# EAGLE library part AVR_JTAG_2X5 (library customheaders)
HARTING
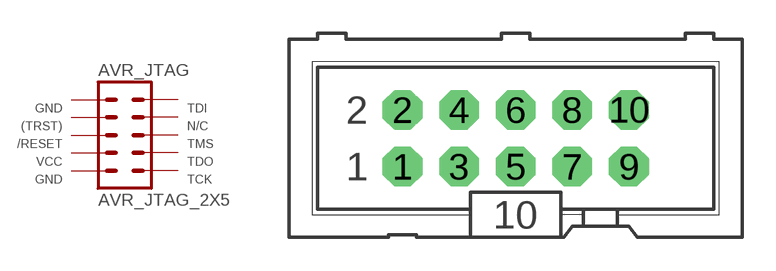
[diagram p1: symbol with the pads of AVR_JTAG_2X5; footprint AVR_JTAG_2X5]

Designator prefix AVR_JTAG

## AVR_JTAG_2X5/OUT (OC_FARNELL: unknown; OC_NEWARK: unknown)  [AVR_JTAG_2X5]
1  GND2
2  TDI
3  (TRST)
4  N/C
5  /RESET
6  TMS
7  VCC
8  TDO
9  GND1
10  TCK

## AVR_JTAG_2X5/IN  [AVR_JTAG_2X5]
1  TCK
2  GND1
3  TDO
4  VCC
5  TMS
6  /RESET
7  N/C
8  (TRST)
9  TDI
10  GND2

## Footprint AVR_JTAG_2X5 (pad centres in mm)
HARTING
drill 1 pad 1.778 octagon: 1 -5.08,-1.27; 2 -5.08,1.27; 3 -2.54,-1.27; 4 -2.54,1.27; 5 0,-1.27; 6 0,1.27; 7 2.54,-1.27; 8 2.54,1.27; 9 5.08,-1.27; 10 5.08,1.27